# Altium footprint library ti_dap0032b.PcbLib: 1 footprints
Each footprint in its own frame and in the unit in brackets; x right, y up, seen from the top. Pads: shape width x height; smd on the part's side, far side on the other; paste and mask are expansions set on the pad; w line width, h text height; cw(c..) or ccw(c..) is an arc to the next point about the centre after c.
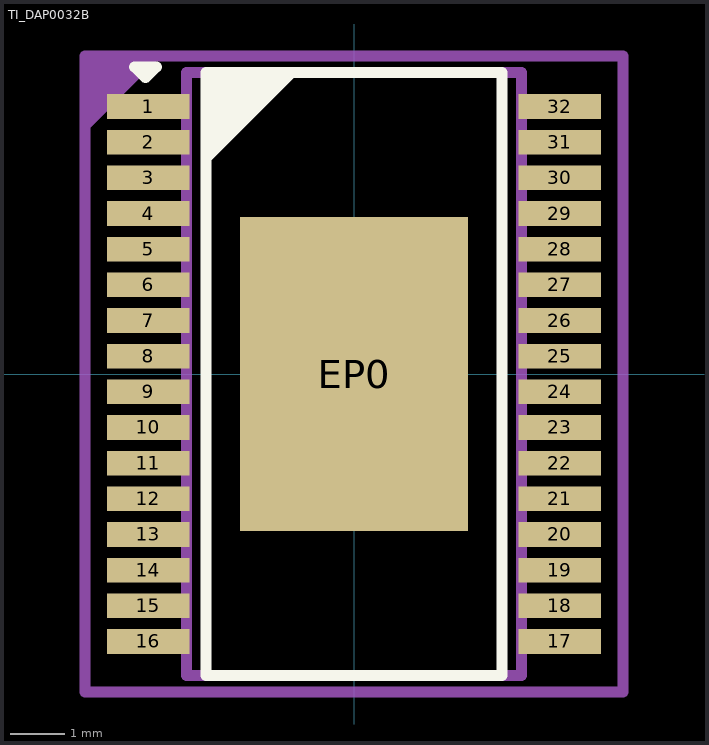
[diagram p0: the footprint, top view; thin cyan lines are the x and y axes]

## TI_DAP0032B [mm]
height 1.2
pads (33):
  rect 1.5x0.45 smd: 1(-3.75,4.875) 2(-3.75,4.225) 3(-3.75,3.575) 4(-3.75,2.925) 5(-3.75,2.275) 6(-3.75,1.625) 7(-3.75,0.975) 8(-3.75,0.325) 9(-3.75,-0.325) 10(-3.75,-0.975) 11(-3.75,-1.625) 12(-3.75,-2.275) 13(-3.75,-2.925) 14(-3.75,-3.575) 15(-3.75,-4.225) 16(-3.75,-4.875) 17(3.75,-4.875) 18(3.75,-4.225) 19(3.75,-3.575) 20(3.75,-2.925) 21(3.75,-2.275) 22(3.75,-1.625) 23(3.75,-0.975) 24(3.75,-0.325) 25(3.75,0.325) 26(3.75,0.975) 27(3.75,1.625) 28(3.75,2.275) 29(3.75,2.925) 30(3.75,3.575) 31(3.75,4.225) 32(3.75,4.875)
  rect 4.16x5.72 smd: EP0(0,0)
Top Overlay:
  region: -2.7,5.5 -1,5.5 -2.7,3.8
  lines w0.2: -4,5.6 -3.8,5.4 -3.6,5.6 -4,5.6 ; -2.7,-5.5 2.7,-5.5 2.7,5.5 -2.7,5.5 -2.7,-5.5
Top Designator:
  text ".Designator" at 0.267,-2.2 h1
Top 3D Body:
  lines w0.2: -3.05,-5.5 3.05,-5.5 3.05,5.5 -3.05,5.5 -3.05,-5.5
Top Courtyard:
  region: -4.9,5.8 -3.5,5.8 -4.9,4.4
  lines w0.2: -4.9,-5.8 4.9,-5.8 4.9,5.8 -4.9,5.8 -4.9,-5.8
3D body "TI_DAP0032B.stp": height 1.11, standoff 0.01, extent -4.06,-5.5 4.06,5.5